# Altium integrated library TI Audio CODEC.IntLib: 199 symbols (part 13 of 17)
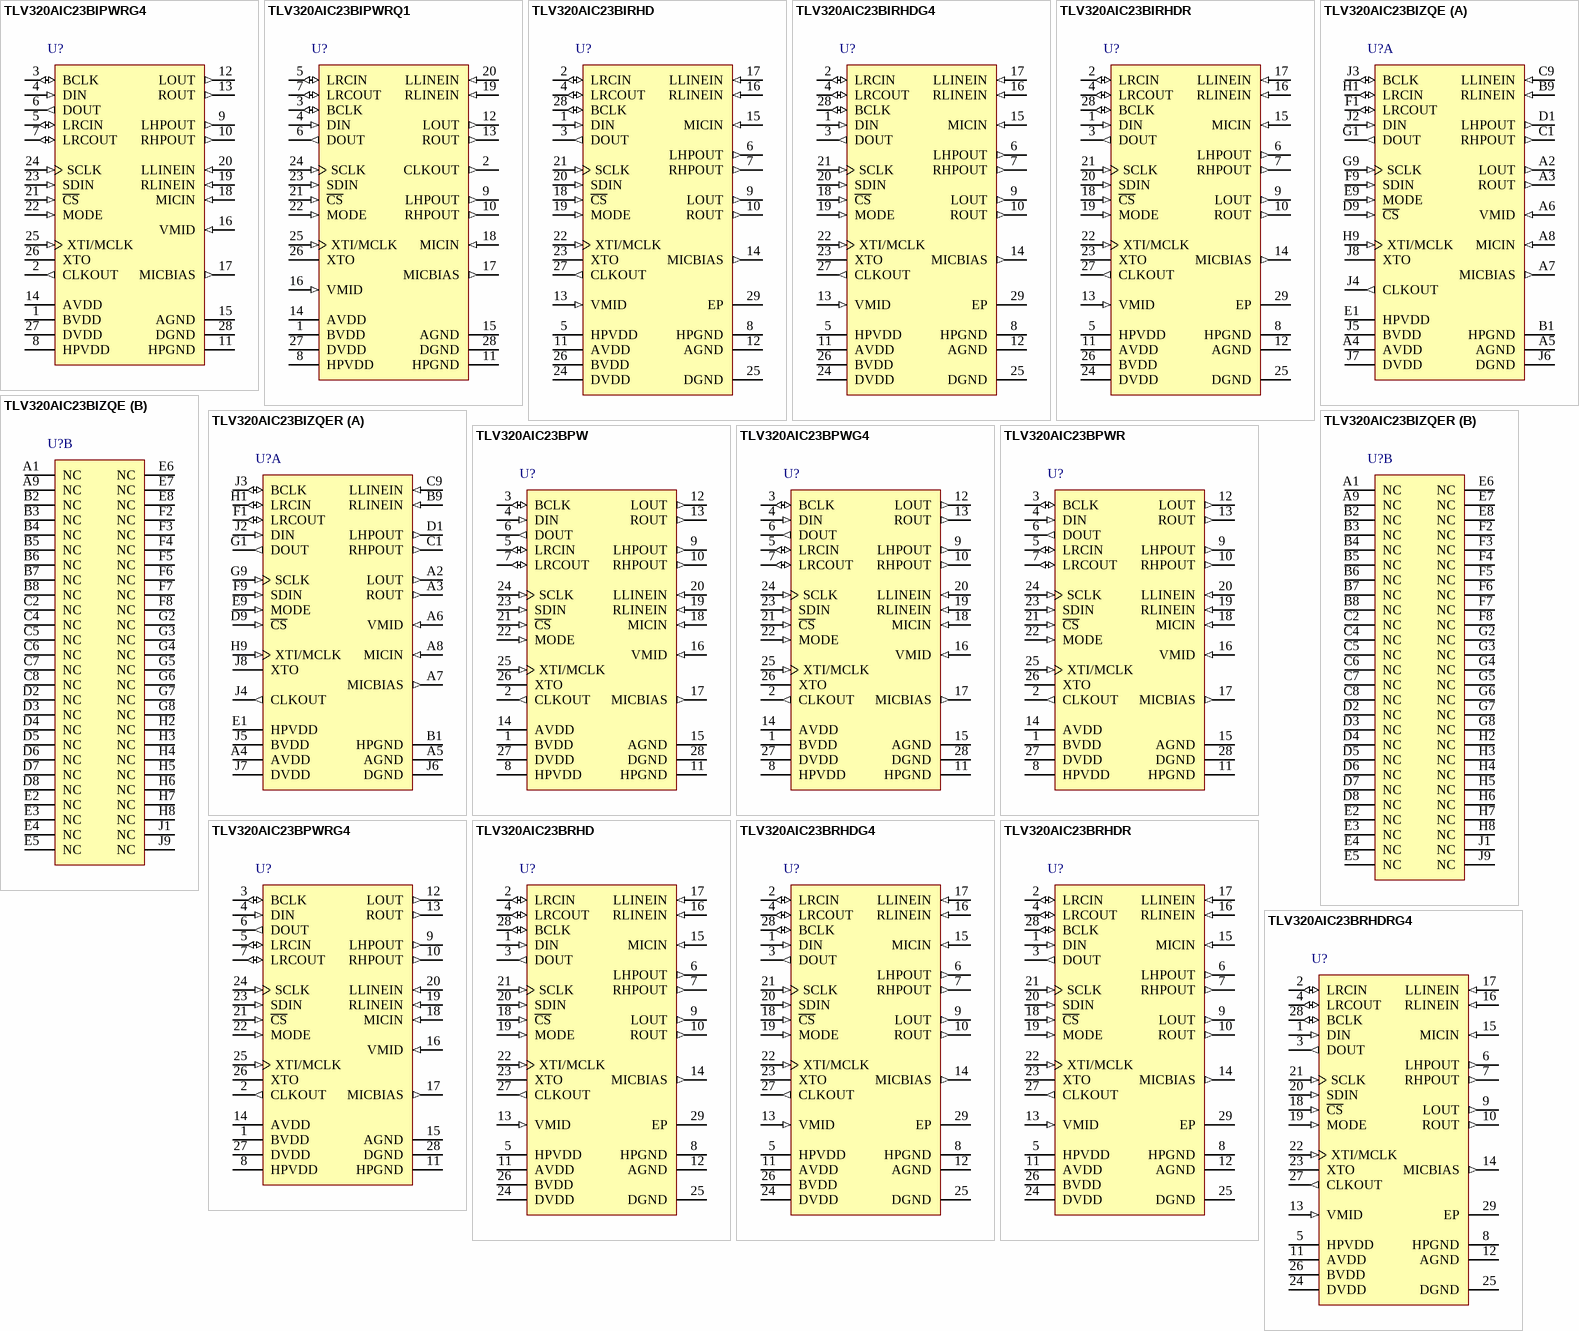
[diagram p25: symbols TLV320AIC23BIPWRG4 to TLV320AIC23BRHDRG4]

## TLV320AIC23BRHDRG4
designator U?
Low-Power Stereo CODEC with HP Amplifier, 1 ADC and 1 DAC, 100 dB DAC SNR, 0 to 70 degC, 28-pin VQFN (RHD), Green (RoHS & no Sb/Br); Manufacturer: Texas Instruments; PartNumber: TLV320AIC23BRHDRG4; # ADCs (typ): 1; Battery Powered: TRUE; Control Interface: SPI, I2C; DAC SNR: 100; Digital Audio Interfaces: L, R, I2S, DSP; Sampling Rate (Max) (kHz): 96; DatasheetVersion: SLWS106H; PackageVersion: revF, Sep-2011; PackageReference: RHD28-3150X3150TP; PackageDescription: 28-Pin Plastic Quad Flatpack No-Lead, 5 x 5 mm Body, 0.5 mm Pitch, Exposed Pad; Supplier 1: Digi-Key; Supplier Part Number 1: TLV320AIC23BRHDRG4-ND; Supplier 2: Newark; Supplier Part Number 2: 66K4437; Supplier 3: Mouser; Supplier Part Number 3: 595-TLV320AIC23BRHG4; # DACs: 1; Mounting Technology: Surface Mount; Code_JEDEC: MO-220; ComponentLink1Description: Datasheet; ComponentLink1URL: http://www.ti.com/general/docs/lit/getliterature.tsp?genericPartNumber=TLV320AIC23B&fileType=pdf
footprint RHD28-3150X3150TP (QFN, 28-Leads, Body 5x5mm, Pitch 0.5mm, Thermal Pad 3.15x3.15mm, TI Recommended)
pins: 1 DIN (in) "I2S format serial data input to the sigma-delta stereo DAC", 2 LRCIN (io) "I2S DAC-word clock signal. In audio master mode, the AIC23B generates this framing signal and sends it to the DSP. In audio slave mode, the signal is generated by the DSP.", 3 DOUT (out) "I2S format serial data output from the sigma-delta stereo ADC", 4 LRCOUT (io) "I2S ADC-word clock signal. In audio master mode, the AIC23B generates this framing signal and sends it to the DSP. In audio slave mode, the signal is generated by the DSP.", 5 HPVDD (power) "Analog headphone amplifier supply input. Voltage level is 3.3 V nominal.", 6 LHPOUT (out) "Left stereo mixer-channel amplified headphone output. Nominal 0-dB output level is 1 VRMS. Gain of -73 dB to 6 dB is provided in 1-dB steps.", 7 RHPOUT (out) "Right stereo mixer-channel amplified headphone output. Nominal 0-dB output level is 1 VRMS. Gain of -73 dB to 6 dB is provided in 1-dB steps.", 8 HPGND (power) "Analog headphone amplifier supply return", 9 LOUT (out) "Left stereo mixer-channel line output. Nominal output level is 1.0 VRMS.", 10 ROUT (out) "Right stereo mixer-channel line output. Nominal output level is 1.0 VRMS.", 11 AVDD (power) "Analog supply input. Voltage level is 3.3 V nominal.", 12 AGND (power) "Analog supply return", 13 VMID (in) "Midrail voltage decoupling input. 10-uF and 0.1-uF capacitors should be connected in parallel to this terminal for noise filtering. Voltage level is 1/2 AVDD nominal.", 14 MICBIAS (out) "Buffered low-noise-voltage output suitable for electret-microphone-capsule biasing. Voltage level is 3/4 AVDD nominal.", 15 MICIN (in) "Buffered amplifier input suitable for use with electret-microphone capsules. Without external resistors a default gain of 5 is provided. See Section 2.3.1.2 for details.", 16 RLINEIN (in) "Right stereo-line input channel. Nominal 0-dB input level is 1 VRMS. Gain of -34.5 dB to 12 dB is provided in 1.5-dB steps.", 17 LLINEIN (in) "Left stereo-line input channel. Nominal 0-dB input level is 1 VRMS. Gain of -34.5 dB to 12 dB is provided in 1.5-dB steps.", 18 ~{CS} (in) "Control port input latch/address select. For SPI control mode this input acts as the data latch control. For 2-wire control mode this input defines the seventh bit in the device address field. See Section 3.1 for details.", 19 MODE (in) "Serial-interface-mode input. See Section 3.1 for details.", 20 SDIN (in) "Control-port serial-data input. For SPI and 2-wire control modes this is the serial-data input and also is used to select the control protocol after reset. See Section 3.1 for details.", 21 SCLK (in) "Control-port serial-data clock. For SPI and 2-wire control modes this is the serial-clock input. See Section 3.1 for details.", 22 XTI/MCLK (in) "Crystal or external-clock input. Used for derivation of all internal clocks on the AIC23B.", 23 XTO "Crystal output. Connect to external crystal for applications where the AIC23B is the audio timing master. Not used in applications where external clock source is used.", 24 DVDD (power) "Digital supply input. Voltage range is 1.4 V to 3.6 V.", 25 DGND (power) "Digital supply return", 26 BVDD (power) "Buffer supply input. Voltage range is from 2.7 V to 3.6 V", 27 CLKOUT (out) "Clock output. This is a buffered version of the XTI input and is available in 1X or 1/2X frequencies of XTI. Bit 07 in the sample rate control register controls frequency selection.", 28 BCLK (io) "I2S serial-bit clock. In audio master mode, the AIC23B generates this signal and sends it to the DSP. In audio slave mode, the signal is generated by the DSP.", 29 EP "Exposed pad."

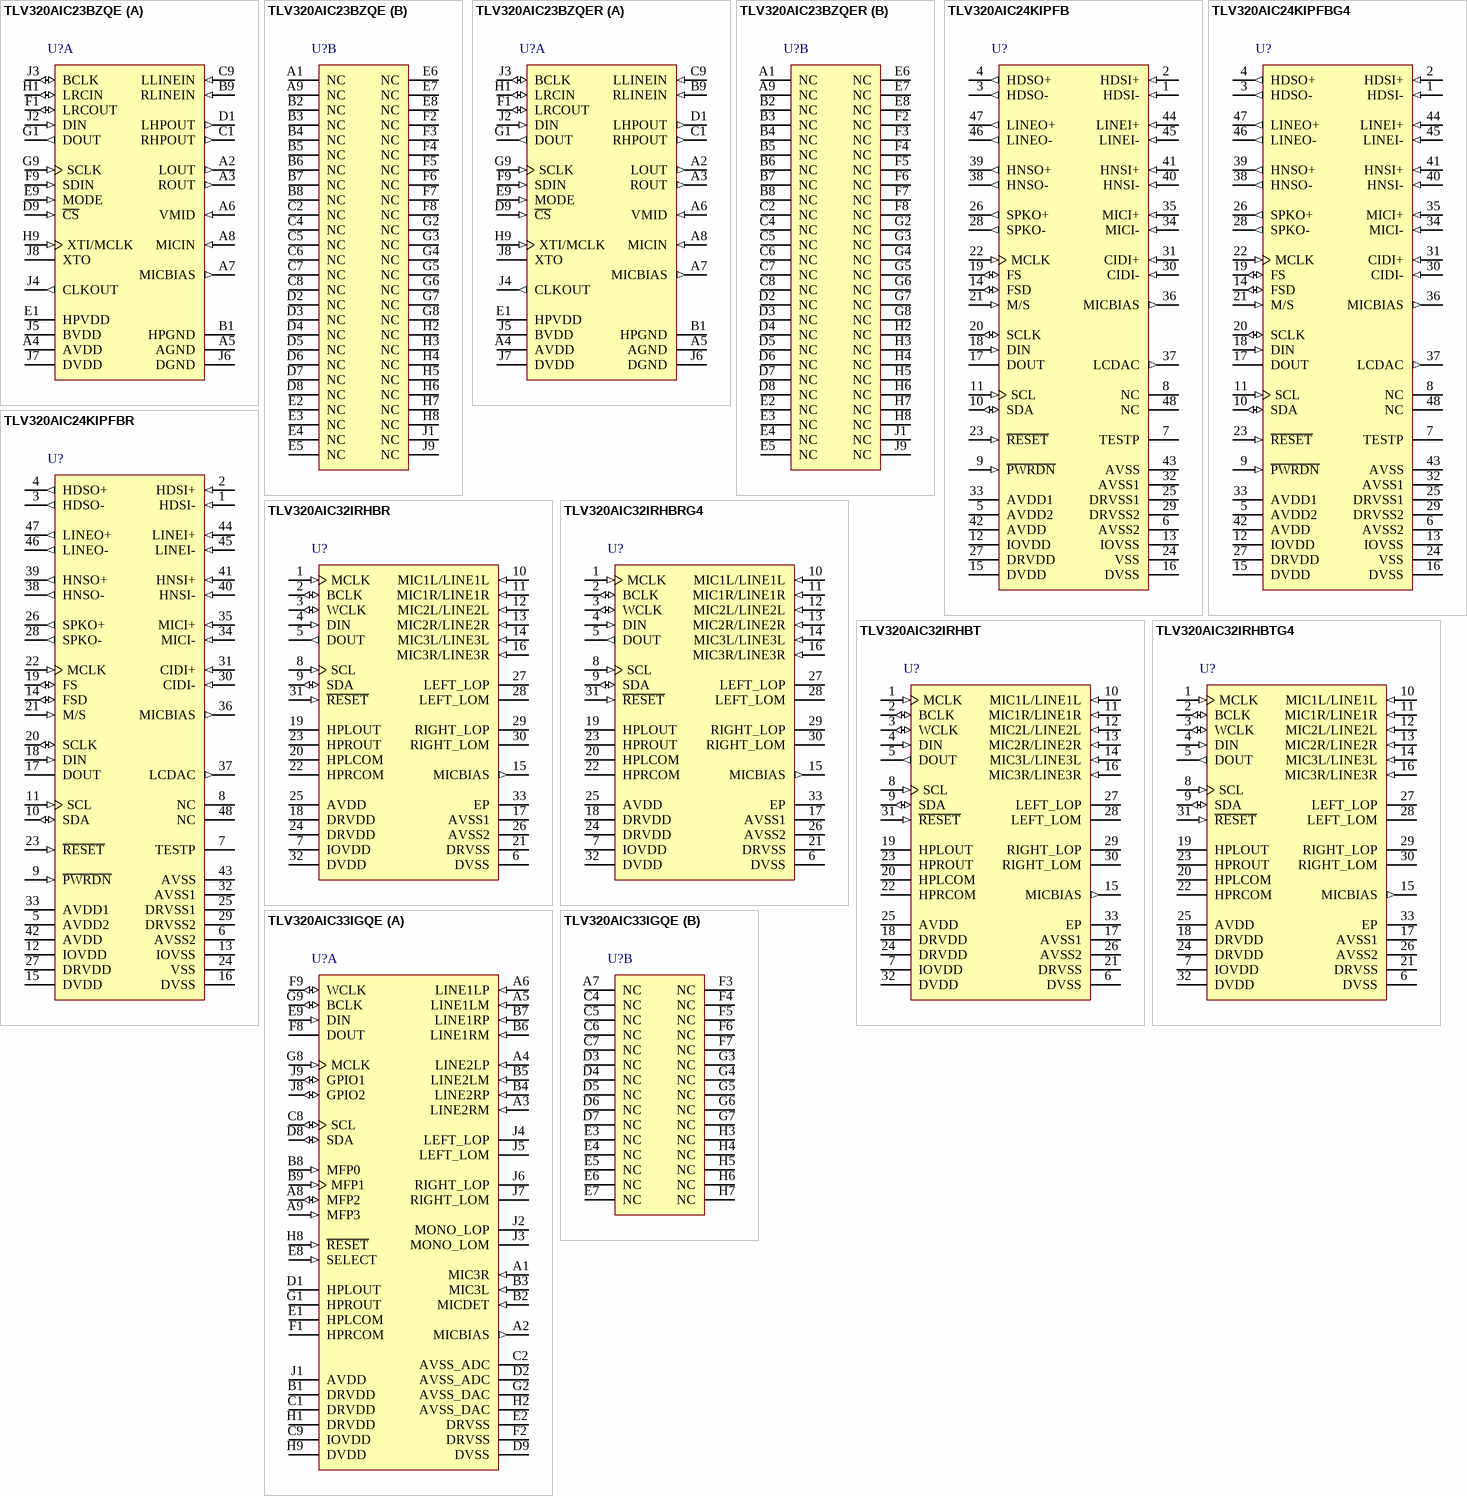
[diagram p9: symbols TLV320AIC23BZQE to TLV320AIC33IGQE]

## TLV320AIC23BZQE
designator U?
Low-Power Stereo CODEC with HP Amplifier, 1 ADC and 1 DAC, 100 dB DAC SNR, 0 to 70 degC, 80-pin BGAMICROSTAR JUNIOR (ZQE), Green (RoHS & no Sb/Br); Manufacturer: Texas Instruments; PartNumber: TLV320AIC23BZQE; # ADCs (typ): 1; Battery Powered: TRUE; Control Interface: SPI, I2C; DAC SNR: 100; Digital Audio Interfaces: L, R, I2S, DSP; Sampling Rate (Max) (kHz): 96; DatasheetVersion: SLWS106H; PackageVersion: revF, Jul-2011; PackageReference: ZQE80; PackageDescription: 80-Ball Plastic Ball Grid Array, 5 x 5 mm Body, 0.5 mm Pitch; Supplier 1: Digi-Key; Supplier Part Number 1: TLV320AIC23BZQE-ND; Supplier 2: Newark; Supplier Part Number 2: 61H5497; Supplier 3: Mouser; Supplier Part Number 3: 595-TLV320AIC23BZQE; # DACs: 1; Mounting Technology: Surface Mount; Code_JEDEC: MO-225; ComponentLink1Description: Datasheet; ComponentLink1URL: http://www.ti.com/general/docs/lit/getliterature.tsp?genericPartNumber=TLV320AIC23B&fileType=pdf
footprint ZQE80 (BGA, 80-Leads, Body 5x5mm, Pitch 0.5mm)
part A pins: A2 LOUT (out) "Left stereo mixer-channel line output. Nominal output level is 1.0 VRMS.", A3 ROUT (out) "Right stereo mixer-channel line output. Nominal output level is 1.0 VRMS.", A4 AVDD (power) "Analog supply input. Voltage level is 3.3 V nominal.", A5 AGND (power) "Analog supply return", A6 VMID (in) "Midrail voltage decoupling input. 10-uF and 0.1-uF capacitors should be connected in parallel to this teminal for noise filtering.Voltage level is 1/2 AVDD nomonal.", A7 MICBIAS (out) "Buffered low-noise-voltage output suitable for electret-microphone-capsule biasing. Voltage level is 3/4 AVDD nominal.", A8 MICIN (in) "Buffered amplifier input suitable for use with electret-microphone capsules. Without external resistors a default gain of 5 is provided.See Section 2.3.1.2 for details.", B1 HPGND (power) "Analog headphone amplifier supply return", B9 RLINEIN (in) "Right stereo-line input channel. Nominal 0-dB input level is 1 VRMS. Gain of -34.5 dB to 12 dB is provided in 1.5-db steps.", C1 RHPOUT (out) "Right stereo mixer-channel amplified headphone output. Nominal 0-dB output level is 1 VRMS.Gain of-73 db to 6 db is provided in 1-db steps.", C9 LLINEIN (in) "Left stereo-line input channel. Nominal 0-dB input level is 1 VRMS. Gain of -34.5 dB to 12 dB is provided in 1.5-db steps.", D1 LHPOUT (out) "Left stereo mixer-channel amplified headphone output. Nominal 0-dB output level is 1 VRMS.Gain of-73 db to 6 db is provided in 1-db steps.", D9 ~{CS} (in) "Control port input latch/address select.For SPI control mode this input acts as the data latch control.For 2-wire control mode this input defines the seventh bit in the device address field.See Section 3.1 for details.", E1 HPVDD (power) "Analog headphone amplifier supply input. Voltage level is 3.3 V nominal.", E9 MODE (in) "Serial-interface-mode input. See Section 3.1 for details.", F1 LRCOUT (io) "I2S ADC-word clock signal. In audio master mode, the AIC23B generates this framing signal and sens it to the DSP.In audio slave mode,the signal is generated by the DSP.", F9 SDIN (in) "Control-port serial-data input. For SPI and 2-wire control modes this is the serial-data input and also is used to select the control protocol after reset.See Section 3.1 for details.", G1 DOUT (out) "I2S format serial data output from the sigma-delta stereo ADC", G9 SCLK (in) "Control-port serial-data clock. For SPI and 2-wire control modes this is the serial-clock input.See Section 3.1 for details.", H1 LRCIN (io) "I2S DAC-word clock signal. In audio master mode, the AIC23B generates this framing signal and sends it to the DSP.In audio slave mode,the signal is generated by the DSP.", H9 XTI/MCLK (in) "Crystal or external-clock input. Used for derivation of all internal clocks on the AIC23B.", J2 DIN (in) "I2S format serial data input to the sigma-delta stereo DAC", J3 BCLK (io) "I2S serial-bit clock. In audio master mode, the AIC23B generates this signal and sends it to the DSP.In audio slave mode,the signal generated by the DSP.", J4 CLKOUT (out) "Clock output.This is a buffered version of the XTI input and is available in 1X or 1/2X frequencies of XTI.Bit 07 in the sample rate control register controls frequency selection.", J5 BVDD (power) "Buffer supply input.Voltage range is from 2.7V to 3.6V.", J6 DGND (power) "Digital supply return", J7 DVDD (power) "Digital supply input. Voltage range is 1.4 V to 3.6 V.", J8 XTO "Crystal output. Connect to external crystal for applications where the AIC23B is the audio timing master.Not used in applications wherre external clock source is used."
part B pins: A1 NC "Not Used--No internal connection", A9 NC "Not Used--No internal connection", B2 NC "Not Used--No internal connection", B3 NC "Not Used--No internal connection", B4 NC "Not Used--No internal connection", B5 NC "Not Used--No internal connection", B6 NC "Not Used--No internal connection", B7 NC "Not Used--No internal connection", B8 NC "Not Used--No internal connection", C2 NC "Not Used--No internal connection", C4 NC "Not Used--No internal connection", C5 NC "Not Used--No internal connection", C6 NC "Not Used--No internal connection", C7 NC "Not Used--No internal connection", C8 NC "Not Used--No internal connection", D2 NC "Not Used--No internal connection", D3 NC "Not Used--No internal connection", D4 NC "Not Used--No internal connection", D5 NC "Not Used--No internal connection", D6 NC "Not Used--No internal connection", D7 NC "Not Used--No internal connection", D8 NC "Not Used--No internal connection", E2 NC "Not Used--No internal connection", E3 NC "Not Used--No internal connection", E4 NC "Not Used--No internal connection", E5 NC "Not Used--No internal connection", E6 NC "Not Used--No internal connection", E7 NC "Not Used--No internal connection", E8 NC "Not Used--No internal connection", F2 NC "Not Used--No internal connection", F3 NC "Not Used--No internal connection", F4 NC "Not Used--No internal connection", F5 NC "Not Used--No internal connection", F6 NC "Not Used--No internal connection", F7 NC "Not Used--No internal connection", F8 NC "Not Used--No internal connection", G2 NC "Not Used--No internal connection", G3 NC "Not Used--No internal connection", G4 NC "Not Used--No internal connection", G5 NC "Not Used--No internal connection", G6 NC "Not Used--No internal connection", G7 NC "Not Used--No internal connection", G8 NC "Not Used--No internal connection", H2 NC "Not Used--No internal connection", H3 NC "Not Used--No internal connection", H4 NC "Not Used--No internal connection", H5 NC "Not Used--No internal connection", H6 NC "Not Used--No internal connection", H7 NC "Not Used--No internal connection", H8 NC "Not Used--No internal connection", J1 NC "Not Used--No internal connection", J9 NC "Not Used--No internal connection"

## TLV320AIC23BZQER
designator U?
Low-Power Stereo CODEC with HP Amplifier, 1 ADC and 1 DAC, 100 dB DAC SNR, 0 to 70 degC, 80-pin BGAMICROSTAR JUNIOR (ZQE), Green (RoHS & no Sb/Br); Manufacturer: Texas Instruments; PartNumber: TLV320AIC23BZQER; # ADCs (typ): 1; Battery Powered: TRUE; Control Interface: SPI, I2C; DAC SNR: 100; Digital Audio Interfaces: L, R, I2S, DSP; Sampling Rate (Max) (kHz): 96; DatasheetVersion: SLWS106H; PackageVersion: revF, Jul-2011; PackageReference: ZQE80; PackageDescription: 80-Ball Plastic Ball Grid Array, 5 x 5 mm Body, 0.5 mm Pitch; Supplier 1: Digi-Key; Supplier Part Number 1: TLV320AIC23BZQER-ND; Supplier 2: Newark; Supplier Part Number 2: 61H5498; Supplier 3: Mouser; Supplier Part Number 3: 595-TLV320AIC23BZQER; # DACs: 1; Mounting Technology: Surface Mount; Code_JEDEC: MO-225; ComponentLink1Description: Datasheet; ComponentLink1URL: http://www.ti.com/general/docs/lit/getliterature.tsp?genericPartNumber=TLV320AIC23B&fileType=pdf
footprint ZQE80 (BGA, 80-Leads, Body 5x5mm, Pitch 0.5mm)
part A pins: A2 LOUT (out) "Left stereo mixer-channel line output. Nominal output level is 1.0 VRMS.", A3 ROUT (out) "Right stereo mixer-channel line output. Nominal output level is 1.0 VRMS.", A4 AVDD (power) "Analog supply input. Voltage level is 3.3 V nominal.", A5 AGND (power) "Analog supply return", A6 VMID (in) "Midrail voltage decoupling input. 10-uF and 0.1-uF capacitors should be connected in parallel to this teminal for noise filtering.Voltage level is 1/2 AVDD nomonal.", A7 MICBIAS (out) "Buffered low-noise-voltage output suitable for electret-microphone-capsule biasing. Voltage level is 3/4 AVDD nominal.", A8 MICIN (in) "Buffered amplifier input suitable for use with electret-microphone capsules. Without external resistors a default gain of 5 is provided.See Section 2.3.1.2 for details.", B1 HPGND (power) "Analog headphone amplifier supply return", B9 RLINEIN (in) "Right stereo-line input channel. Nominal 0-dB input level is 1 VRMS. Gain of -34.5 dB to 12 dB is provided in 1.5-db steps.", C1 RHPOUT (out) "Right stereo mixer-channel amplified headphone output. Nominal 0-dB output level is 1 VRMS.Gain of-73 db to 6 db is provided in 1-db steps.", C9 LLINEIN (in) "Left stereo-line input channel. Nominal 0-dB input level is 1 VRMS. Gain of -34.5 dB to 12 dB is provided in 1.5-db steps.", D1 LHPOUT (out) "Left stereo mixer-channel amplified headphone output. Nominal 0-dB output level is 1 VRMS.Gain of-73 db to 6 db is provided in 1-db steps.", D9 ~{CS} (in) "Control port input latch/address select.For SPI control mode this input acts as the data latch control.For 2-wire control mode this input defines the seventh bit in the device address field.See Section 3.1 for details.", E1 HPVDD (power) "Analog headphone amplifier supply input. Voltage level is 3.3 V nominal.", E9 MODE (in) "Serial-interface-mode input. See Section 3.1 for details.", F1 LRCOUT (io) "I2S ADC-word clock signal. In audio master mode, the AIC23B generates this framing signal and sens it to the DSP.In audio slave mode,the signal is generated by the DSP.", F9 SDIN (in) "Control-port serial-data input. For SPI and 2-wire control modes this is the serial-data input and also is used to select the control protocol after reset.See Section 3.1 for details.", G1 DOUT (out) "I2S format serial data output from the sigma-delta stereo ADC", G9 SCLK (in) "Control-port serial-data clock. For SPI and 2-wire control modes this is the serial-clock input.See Section 3.1 for details.", H1 LRCIN (io) "I2S DAC-word clock signal. In audio master mode, the AIC23B generates this framing signal and sends it to the DSP.In audio slave mode,the signal is generated by the DSP.", H9 XTI/MCLK (in) "Crystal or external-clock input. Used for derivation of all internal clocks on the AIC23B.", J2 DIN (in) "I2S format serial data input to the sigma-delta stereo DAC", J3 BCLK (io) "I2S serial-bit clock. In audio master mode, the AIC23B generates this signal and sends it to the DSP.In audio slave mode,the signal generated by the DSP.", J4 CLKOUT (out) "Clock output.This is a buffered version of the XTI input and is available in 1X or 1/2X frequencies of XTI.Bit 07 in the sample rate control register controls frequency selection.", J5 BVDD (power) "Buffer supply input.Voltage range is from 2.7V to 3.6V.", J6 DGND (power) "Digital supply return", J7 DVDD (power) "Digital supply input. Voltage range is 1.4 V to 3.6 V.", J8 XTO "Crystal output. Connect to external crystal for applications where the AIC23B is the audio timing master.Not used in applications wherre external clock source is used."
part B pins: A1 NC "Not Used--No internal connection", A9 NC "Not Used--No internal connection", B2 NC "Not Used--No internal connection", B3 NC "Not Used--No internal connection", B4 NC "Not Used--No internal connection", B5 NC "Not Used--No internal connection", B6 NC "Not Used--No internal connection", B7 NC "Not Used--No internal connection", B8 NC "Not Used--No internal connection", C2 NC "Not Used--No internal connection", C4 NC "Not Used--No internal connection", C5 NC "Not Used--No internal connection", C6 NC "Not Used--No internal connection", C7 NC "Not Used--No internal connection", C8 NC "Not Used--No internal connection", D2 NC "Not Used--No internal connection", D3 NC "Not Used--No internal connection", D4 NC "Not Used--No internal connection", D5 NC "Not Used--No internal connection", D6 NC "Not Used--No internal connection", D7 NC "Not Used--No internal connection", D8 NC "Not Used--No internal connection", E2 NC "Not Used--No internal connection", E3 NC "Not Used--No internal connection", E4 NC "Not Used--No internal connection", E5 NC "Not Used--No internal connection", E6 NC "Not Used--No internal connection", E7 NC "Not Used--No internal connection", E8 NC "Not Used--No internal connection", F2 NC "Not Used--No internal connection", F3 NC "Not Used--No internal connection", F4 NC "Not Used--No internal connection", F5 NC "Not Used--No internal connection", F6 NC "Not Used--No internal connection", F7 NC "Not Used--No internal connection", F8 NC "Not Used--No internal connection", G2 NC "Not Used--No internal connection", G3 NC "Not Used--No internal connection", G4 NC "Not Used--No internal connection", G5 NC "Not Used--No internal connection", G6 NC "Not Used--No internal connection", G7 NC "Not Used--No internal connection", G8 NC "Not Used--No internal connection", H2 NC "Not Used--No internal connection", H3 NC "Not Used--No internal connection", H4 NC "Not Used--No internal connection", H5 NC "Not Used--No internal connection", H6 NC "Not Used--No internal connection", H7 NC "Not Used--No internal connection", H8 NC "Not Used--No internal connection", J1 NC "Not Used--No internal connection", J9 NC "Not Used--No internal connection"

## TLV320AIC24KIPFB
designator U?
Low-Power Stereo Voice Band CODEC with 1 ADC and 1 DAC, 92 dB DAC SNR, -40 to 85 degC, 48-pin TQFP (PFB), Green (RoHS & no Sb/Br); Manufacturer: Texas Instruments; PartNumber: TLV320AIC24KIPFB; # ADCs (typ): 1; Battery Powered: TRUE; Control Interface: I2C, S2C; DAC SNR: 92; Digital Audio Interfaces: DSP, SMART TDM; Sampling Rate (Max) (kHz): 26; DatasheetVersion: SLAS363D; PackageVersion: Jan-1998; PackageReference: PFB48; PackageDescription: 48-Pin Thin Plastic Quad Flat Pack 0.5 mm Pitch; Supplier 1: Digi-Key; Supplier Part Number 1: 296-17966-ND; Supplier 2: Newark; Supplier Part Number 2: 28K5677; Supplier 3: Mouser; Supplier Part Number 3: 595-TLV320AIC24KIPFB; # DACs: 1; Headphone Driver: TRUE; Mounting Technology: Surface Mount; Code_JEDEC: MS-026; ComponentLink1Description: Datasheet; ComponentLink1URL: http://www.ti.com/general/docs/lit/getliterature.tsp?genericPartNumber=TLV320AIC24K&fileType=pdf
footprint PFB48_N (Thin QFP, 48-Leads, Body 7x7mm, Pitch 0.5mm, IPC Medium Density)
footprint PFB48_L (Thin QFP, 48-Leads, Body 7x7mm, Pitch 0.5mm, IPC High Density)
footprint PFB48_M (Thin QFP, 48-Leads, Body 7x7mm, Pitch 0.5mm, IPC Low Density)
pins: 1 HDSI- (in) "Head-set input. The Head-set input can be treated similar to the Line-input pins", 2 HDSI+ (in) "Head-set input. The Head-set input can be treated similar to the Line-input pins", 3 HDSO- (out) "150-ohm output", 4 HDSO+ (out) "150-ohm output", 5 AVDD2 (power) "Analog power supply", 6 AVSS2 (power) "Analog ground", 7 TESTP (power) "Test pin. Should be connected to digital ground.", 8 NC "Not connected", 9 ~{PWRDN} (in) "Power down", 10 SDA (io) "I2C/S2C data", 11 SCL (in) "I2C/S2C clock", 12 IOVDD (power) "I/O power supply", 13 IOVSS (power) "I/O ground", 14 FSD (io) "Frame sync delayed", 15 DVDD (power) "Digital supply (1.8 V)", 16 DVSS (power) "Digital ground", 17 DOUT (hiz) "Data OUT", 18 DIN (in) "Data IN", 19 FS (io) "Frame sync", 20 SCLK (io) "Serial clock", 21 M/S (in) "Master slave select applied to CODEC1 only. CODEC2 is always a slave.", 22 MCLK (in) "Master clock", 23 ~{RESET} (in) "Reset", 24 VSS (power) "Device ground. Typically this should be connected to the Analog Ground.", 25 DRVSS1 (power) "Driver ground", 26 SPKO+ (out) "8-ohm output", 27 DRVDD (power) "Driver supply", 28 SPKO- (out) "8-ohm output", 29 DRVSS2 (power) "Driver ground", 30 CIDI- (in) "Caller-ID input. The Caller-ID input can be treated similar to the Line-input pins", 31 CIDI+ (in) "Caller-ID input. The Caller-ID input can be treated similar to the Line-input pins", 32 AVSS1 (power) "Analog ground", 33 AVDD1 (power) "Analog supply", 34 MICI- (in) "Microphone input", 35 MICI+ (in) "Microphone input", 36 MICBIAS (out) "Microphone bias", 37 LCDAC (out) "6-Bit DAC output may be used to drive LCDAC", 38 HNSO- (out) "150-ohm output", 39 HNSO+ (out) "150-ohm output", 40 HNSI- (in) "Hand-set input. The Hand-set input can be treated similar to the Line-input pins", 41 HNSI+ (in) "Hand-set input. The Hand-set input can be treated similar to the Line-input pins", 42 AVDD (power) "Analog supply", 43 AVSS (power) "Analog ground", 44 LINEI+ (in) "Line input", 45 LINEI- (in) "Line input", 46 LINEO- (out) "600-ohm output", 47 LINEO+ (out) "600-ohm output", 48 NC "Not connected"

## TLV320AIC24KIPFBG4
designator U?
Low-Power Stereo Voice Band CODEC with 1 ADC and 1 DAC, 92 dB DAC SNR, -40 to 85 degC, 48-pin TQFP (PFB), Green (RoHS & no Sb/Br); Manufacturer: Texas Instruments; PartNumber: TLV320AIC24KIPFBG4; # ADCs (typ): 1; Battery Powered: TRUE; Control Interface: I2C, S2C; DAC SNR: 92; Digital Audio Interfaces: DSP, SMART TDM; Sampling Rate (Max) (kHz): 26; DatasheetVersion: SLAS363D; PackageVersion: Jan-1998; PackageReference: PFB48; PackageDescription: 48-Pin Thin Plastic Quad Flat Pack 0.5 mm Pitch; Supplier 1: Digi-Key; Supplier Part Number 1: TLV320AIC24KIPFBG4-ND; Supplier 2: Newark; Supplier Part Number 2: 58K6800; Supplier 3: Mouser; Supplier Part Number 3: 595-TLV320AIC24KIPG4; # DACs: 1; Headphone Driver: TRUE; Mounting Technology: Surface Mount; Code_JEDEC: MS-026; ComponentLink1Description: Datasheet; ComponentLink1URL: http://www.ti.com/general/docs/lit/getliterature.tsp?genericPartNumber=TLV320AIC24K&fileType=pdf
footprint PFB48_N (Thin QFP, 48-Leads, Body 7x7mm, Pitch 0.5mm, IPC Medium Density)
footprint PFB48_L (Thin QFP, 48-Leads, Body 7x7mm, Pitch 0.5mm, IPC High Density)
footprint PFB48_M (Thin QFP, 48-Leads, Body 7x7mm, Pitch 0.5mm, IPC Low Density)
pins: 1 HDSI- (in) "Head-set input. The Head-set input can be treated similar to the Line-input pins", 2 HDSI+ (in) "Head-set input. The Head-set input can be treated similar to the Line-input pins", 3 HDSO- (out) "150-ohm output", 4 HDSO+ (out) "150-ohm output", 5 AVDD2 (power) "Analog power supply", 6 AVSS2 (power) "Analog ground", 7 TESTP (power) "Test pin. Should be connected to digital ground.", 8 NC "Not connected", 9 ~{PWRDN} (in) "Power down", 10 SDA (io) "I2C/S2C data", 11 SCL (in) "I2C/S2C clock", 12 IOVDD (power) "I/O power supply", 13 IOVSS (power) "I/O ground", 14 FSD (io) "Frame sync delayed", 15 DVDD (power) "Digital supply (1.8 V)", 16 DVSS (power) "Digital ground", 17 DOUT (hiz) "Data OUT", 18 DIN (in) "Data IN", 19 FS (io) "Frame sync", 20 SCLK (io) "Serial clock", 21 M/S (in) "Master slave select applied to CODEC1 only. CODEC2 is always a slave.", 22 MCLK (in) "Master clock", 23 ~{RESET} (in) "Reset", 24 VSS (power) "Device ground. Typically this should be connected to the Analog Ground.", 25 DRVSS1 (power) "Driver ground", 26 SPKO+ (out) "8-ohm output", 27 DRVDD (power) "Driver supply", 28 SPKO- (out) "8-ohm output", 29 DRVSS2 (power) "Driver ground", 30 CIDI- (in) "Caller-ID input. The Caller-ID input can be treated similar to the Line-input pins", 31 CIDI+ (in) "Caller-ID input. The Caller-ID input can be treated similar to the Line-input pins", 32 AVSS1 (power) "Analog ground", 33 AVDD1 (power) "Analog supply", 34 MICI- (in) "Microphone input", 35 MICI+ (in) "Microphone input", 36 MICBIAS (out) "Microphone bias", 37 LCDAC (out) "6-Bit DAC output may be used to drive LCDAC", 38 HNSO- (out) "150-ohm output", 39 HNSO+ (out) "150-ohm output", 40 HNSI- (in) "Hand-set input. The Hand-set input can be treated similar to the Line-input pins", 41 HNSI+ (in) "Hand-set input. The Hand-set input can be treated similar to the Line-input pins", 42 AVDD (power) "Analog supply", 43 AVSS (power) "Analog ground", 44 LINEI+ (in) "Line input", 45 LINEI- (in) "Line input", 46 LINEO- (out) "600-ohm output", 47 LINEO+ (out) "600-ohm output", 48 NC "Not connected"

## TLV320AIC24KIPFBR
designator U?
Low-Power Stereo Voice Band CODEC with 1 ADC and 1 DAC, 92 dB DAC SNR, -40 to 85 degC, 48-pin TQFP (PFB), Green (RoHS & no Sb/Br); Manufacturer: Texas Instruments; PartNumber: TLV320AIC24KIPFBR; # ADCs (typ): 1; Battery Powered: TRUE; Control Interface: I2C, S2C; DAC SNR: 92; Digital Audio Interfaces: DSP, SMART TDM; Sampling Rate (Max) (kHz): 26; DatasheetVersion: SLAS363D; PackageVersion: Jan-1998; PackageReference: PFB48; PackageDescription: 48-Pin Thin Plastic Quad Flat Pack 0.5 mm Pitch; Supplier 1: Digi-Key; Supplier Part Number 1: TLV320AIC24KIPFBR-ND; Supplier 2: Newark; Supplier Part Number 2: 28K5678; Supplier 3: Mouser; Supplier Part Number 3: 595-TLV320AIC24KFBR; # DACs: 1; Headphone Driver: TRUE; Mounting Technology: Surface Mount; Code_JEDEC: MS-026; ComponentLink1Description: Datasheet; ComponentLink1URL: http://www.ti.com/general/docs/lit/getliterature.tsp?genericPartNumber=TLV320AIC24K&fileType=pdf
footprint PFB48_N (Thin QFP, 48-Leads, Body 7x7mm, Pitch 0.5mm, IPC Medium Density)
footprint PFB48_L (Thin QFP, 48-Leads, Body 7x7mm, Pitch 0.5mm, IPC High Density)
footprint PFB48_M (Thin QFP, 48-Leads, Body 7x7mm, Pitch 0.5mm, IPC Low Density)
pins: 1 HDSI- (in) "Head-set input. The Head-set input can be treated similar to the Line-input pins", 2 HDSI+ (in) "Head-set input. The Head-set input can be treated similar to the Line-input pins", 3 HDSO- (out) "150-ohm output", 4 HDSO+ (out) "150-ohm output", 5 AVDD2 (power) "Analog power supply", 6 AVSS2 (power) "Analog ground", 7 TESTP (power) "Test pin. Should be connected to digital ground.", 8 NC "Not connected", 9 ~{PWRDN} (in) "Power down", 10 SDA (io) "I2C/S2C data", 11 SCL (in) "I2C/S2C clock", 12 IOVDD (power) "I/O power supply", 13 IOVSS (power) "I/O ground", 14 FSD (io) "Frame sync delayed", 15 DVDD (power) "Digital supply (1.8 V)", 16 DVSS (power) "Digital ground", 17 DOUT (hiz) "Data OUT", 18 DIN (in) "Data IN", 19 FS (io) "Frame sync", 20 SCLK (io) "Serial clock", 21 M/S (in) "Master slave select applied to CODEC1 only. CODEC2 is always a slave.", 22 MCLK (in) "Master clock", 23 ~{RESET} (in) "Reset", 24 VSS (power) "Device ground. Typically this should be connected to the Analog Ground.", 25 DRVSS1 (power) "Driver ground", 26 SPKO+ (out) "8-ohm output", 27 DRVDD (power) "Driver supply", 28 SPKO- (out) "8-ohm output", 29 DRVSS2 (power) "Driver ground", 30 CIDI- (in) "Caller-ID input. The Caller-ID input can be treated similar to the Line-input pins", 31 CIDI+ (in) "Caller-ID input. The Caller-ID input can be treated similar to the Line-input pins", 32 AVSS1 (power) "Analog ground", 33 AVDD1 (power) "Analog supply", 34 MICI- (in) "Microphone input", 35 MICI+ (in) "Microphone input", 36 MICBIAS (out) "Microphone bias", 37 LCDAC (out) "6-Bit DAC output may be used to drive LCDAC", 38 HNSO- (out) "150-ohm output", 39 HNSO+ (out) "150-ohm output", 40 HNSI- (in) "Hand-set input. The Hand-set input can be treated similar to the Line-input pins", 41 HNSI+ (in) "Hand-set input. The Hand-set input can be treated similar to the Line-input pins", 42 AVDD (power) "Analog supply", 43 AVSS (power) "Analog ground", 44 LINEI+ (in) "Line input", 45 LINEI- (in) "Line input", 46 LINEO- (out) "600-ohm output", 47 LINEO+ (out) "600-ohm output", 48 NC "Not connected"

## TLV320AIC32IRHBR
designator U?
Low-Power Stereo CODEC with 6 Inputs, 6 Outputs, HP / Speaker Amplifier and 3D Effects, 2 ADCs and 2 DACs, 100 dB DAC SNR, -40 to 85 degC, 32-pin QFN (RHB), Green (RoHS & no Sb/Br); Manufacturer: Texas Instruments; PartNumber: TLV320AIC32IRHBR; # ADCs (typ): 2; Additional Features: 3D, EQ, Matrix Mixing, PLL; Battery Powered: TRUE; Control Interface: I2C; DAC SNR: 100; Digital Audio Interfaces: L, R, I2S, DSP; Sampling Rate (Max) (kHz): 96; Speaker Amp Output Power(Max)(W): 0.5; Speaker Amp Type: Class-AB; DatasheetVersion: SLAS479C; PackageVersion: revD, Jun-2011; PackageReference: RHB32-3450X3450TP; PackageDescription: 32-Pin Plastic Quad Flat No-Lead, 5 x 5 mm Body, 0.5 mm Pitch, 3.45 x 3.45 mm Exposed Pad; Supplier 1: Digi-Key; Supplier Part Number 1: TLV320AIC32IRHBR-ND; Supplier 2: Newark; Supplier Part Number 2: 61K1806; Supplier 3: Mouser; Supplier Part Number 3: 595-TLV320AIC32IRHBR; # DACs: 2; Speaker Amp Ouputs: 2; Mounting Technology: Surface Mount; Code_JEDEC: MO-220; ComponentLink1Description: Datasheet; ComponentLink1URL: http://www.ti.com/general/docs/lit/getliterature.tsp?genericPartNumber=TLV320AIC32&fileType=pdf
footprint RHB32-3450X3450TP (QFN, 32-Leads, Body 5x5mm, Pitch 0.5mm, Thermal Pad 3.45x3.45mm, TI Recommended)
pins: 1 MCLK (in) "Master clock input", 2 BCLK (io) "Audio serial data bus bit clock input/output", 3 WCLK (io) "Audio serial data bus word clock input/output", 4 DIN (in) "Audio serial data bus data input", 5 DOUT (out) "Audio serial data bus data output", 6 DVSS (power) "Digital core / I/O Ground Supply, 0 V", 7 IOVDD (power) "Digital I/O voltage supply, 1.1 V - 3.6 V", 8 SCL (in) "I2C serial clock input", 9 SDA (io) "I2C serial data input/output", 10 MIC1L/LINE1L (in) "Left input 1", 11 MIC1R/LINE1R (in) "Right input 1", 12 MIC2L/LINE2L (in) "Left input 2", 13 MIC2R/LINE2R (in) "Right input 2", 14 MIC3L/LINE3L (in) "Left input 3", 15 MICBIAS (out) "Microphone bias voltage output", 16 MIC3R/LINE3R (in) "Right input 3", 17 AVSS1 (power) "Analog ADC ground supply, 0 V", 18 DRVDD (power) "Analog ADC and output driver voltage supply, 2.7 V - 3.6 V", 19 HPLOUT (hiz) "High power output driver (left +)", 20 HPLCOM (hiz) "High power output driver (left - or multi-functional)", 21 DRVSS (power) "Analog output driver ground supply, 0 V", 22 HPRCOM (hiz) "High power output driver (right - or multi-functional)", 23 HPROUT (hiz) "High power output driver (right +)", 24 DRVDD (power) "Analog output driver voltage supply, 2.7 V - 3.6 V", 25 AVDD (power) "Analog DAC voltage supply, 2.7 V - 3.6 V", 26 AVSS2 (power) "Analog DAC ground supply, 0 V", 27 LEFT_LOP (hiz) "Left line output (+)", 28 LEFT_LOM (hiz) "Left line output (-)", 29 RIGHT_LOP (hiz) "Right lineo output (+)", 30 RIGHT_LOM (hiz) "Right line output (-)", 31 ~{RESET} (in) "Reset", 32 DVDD (power) "Digital core voltage supply, 1.65 V - 1.95 V", 33 EP "Exposed Thermal Pad"

## TLV320AIC32IRHBRG4
designator U?
Low-Power Stereo CODEC with 6 Inputs, 6 Outputs, HP / Speaker Amplifier and 3D Effects, 2 ADCs and 2 DACs, 100 dB DAC SNR, -40 to 85 degC, 32-pin QFN (RHB), Green (RoHS & no Sb/Br); Manufacturer: Texas Instruments; PartNumber: TLV320AIC32IRHBRG4; # ADCs (typ): 2; Additional Features: 3D, EQ, Matrix Mixing, PLL; Battery Powered: TRUE; Control Interface: I2C; DAC SNR: 100; Digital Audio Interfaces: L, R, I2S, DSP; Sampling Rate (Max) (kHz): 96; Speaker Amp Output Power(Max)(W): 0.5; Speaker Amp Type: Class-AB; DatasheetVersion: SLAS479C; PackageVersion: revD, Jun-2011; PackageReference: RHB32-3450X3450TP; PackageDescription: 32-Pin Plastic Quad Flat No-Lead, 5 x 5 mm Body, 0.5 mm Pitch, 3.45 x 3.45 mm Exposed Pad; Supplier 1: Digi-Key; Supplier Part Number 1: TLV320AIC32IRHBRG4-ND; Supplier 2: Newark; Supplier Part Number 2: 61K1807; Supplier 3: Mouser; Supplier Part Number 3: 595-TLV320AIC32IRRG4; # DACs: 2; Speaker Amp Ouputs: 2; Mounting Technology: Surface Mount; Code_JEDEC: MO-220; ComponentLink1Description: Datasheet; ComponentLink1URL: http://www.ti.com/general/docs/lit/getliterature.tsp?genericPartNumber=TLV320AIC32&fileType=pdf
footprint RHB32-3450X3450TP (QFN, 32-Leads, Body 5x5mm, Pitch 0.5mm, Thermal Pad 3.45x3.45mm, TI Recommended)
pins: 1 MCLK (in) "Master clock input", 2 BCLK (io) "Audio serial data bus bit clock input/output", 3 WCLK (io) "Audio serial data bus word clock input/output", 4 DIN (in) "Audio serial data bus data input", 5 DOUT (out) "Audio serial data bus data output", 6 DVSS (power) "Digital core / I/O Ground Supply, 0 V", 7 IOVDD (power) "Digital I/O voltage supply, 1.1 V - 3.6 V", 8 SCL (in) "I2C serial clock input", 9 SDA (io) "I2C serial data input/output", 10 MIC1L/LINE1L (in) "Left input 1", 11 MIC1R/LINE1R (in) "Right input 1", 12 MIC2L/LINE2L (in) "Left input 2", 13 MIC2R/LINE2R (in) "Right input 2", 14 MIC3L/LINE3L (in) "Left input 3", 15 MICBIAS (out) "Microphone bias voltage output", 16 MIC3R/LINE3R (in) "Right input 3", 17 AVSS1 (power) "Analog ADC ground supply, 0 V", 18 DRVDD (power) "Analog ADC and output driver voltage supply, 2.7 V - 3.6 V", 19 HPLOUT (hiz) "High power output driver (left +)", 20 HPLCOM (hiz) "High power output driver (left - or multi-functional)", 21 DRVSS (power) "Analog output driver ground supply, 0 V", 22 HPRCOM (hiz) "High power output driver (right - or multi-functional)", 23 HPROUT (hiz) "High power output driver (right +)", 24 DRVDD (power) "Analog output driver voltage supply, 2.7 V - 3.6 V", 25 AVDD (power) "Analog DAC voltage supply, 2.7 V - 3.6 V", 26 AVSS2 (power) "Analog DAC ground supply, 0 V", 27 LEFT_LOP (hiz) "Left line output (+)", 28 LEFT_LOM (hiz) "Left line output (-)", 29 RIGHT_LOP (hiz) "Right lineo output (+)", 30 RIGHT_LOM (hiz) "Right line output (-)", 31 ~{RESET} (in) "Reset", 32 DVDD (power) "Digital core voltage supply, 1.65 V - 1.95 V", 33 EP "Exposed Thermal Pad"

## TLV320AIC32IRHBT
designator U?
Low-Power Stereo CODEC with 6 Inputs, 6 Outputs, HP / Speaker Amplifier and 3D Effects, 2 ADCs and 2 DACs, 100 dB DAC SNR, -40 to 85 degC, 32-pin QFN (RHB), Green (RoHS & no Sb/Br); Manufacturer: Texas Instruments; PartNumber: TLV320AIC32IRHBT; # ADCs (typ): 2; Additional Features: 3D, EQ, Matrix Mixing, PLL; Battery Powered: TRUE; Control Interface: I2C; DAC SNR: 100; Digital Audio Interfaces: L, R, I2S, DSP; Sampling Rate (Max) (kHz): 96; Speaker Amp Output Power(Max)(W): 0.5; Speaker Amp Type: Class-AB; DatasheetVersion: SLAS479C; PackageVersion: revD, Jun-2011; PackageReference: RHB32-3450X3450TP; PackageDescription: 32-Pin Plastic Quad Flat No-Lead, 5 x 5 mm Body, 0.5 mm Pitch, 3.45 x 3.45 mm Exposed Pad; Supplier 1: Digi-Key; Supplier Part Number 1: 296-21123-2-ND; Supplier 2: Digi-Key; Supplier Part Number 2: 296-21123-1-ND; Supplier 3: Digi-Key; Supplier Part Number 3: 296-21123-6-ND; Supplier 4: Farnell; Supplier Part Number 4: 1411816; Supplier 5: Newark; Supplier Part Number 5: 66K4439; Supplier 6: Mouser; Supplier Part Number 6: 595-TLV320AIC32IRHBT; # DACs: 2; Speaker Amp Ouputs: 2; Mounting Technology: Surface Mount; Code_JEDEC: MO-220; ComponentLink1Description: Datasheet; ComponentLink1URL: http://www.ti.com/general/docs/lit/getliterature.tsp?genericPartNumber=TLV320AIC32&fileType=pdf
footprint RHB32-3450X3450TP (QFN, 32-Leads, Body 5x5mm, Pitch 0.5mm, Thermal Pad 3.45x3.45mm, TI Recommended)
pins: 1 MCLK (in) "Master clock input", 2 BCLK (io) "Audio serial data bus bit clock input/output", 3 WCLK (io) "Audio serial data bus word clock input/output", 4 DIN (in) "Audio serial data bus data input", 5 DOUT (out) "Audio serial data bus data output", 6 DVSS (power) "Digital core / I/O Ground Supply, 0 V", 7 IOVDD (power) "Digital I/O voltage supply, 1.1 V - 3.6 V", 8 SCL (in) "I2C serial clock input", 9 SDA (io) "I2C serial data input/output", 10 MIC1L/LINE1L (in) "Left input 1", 11 MIC1R/LINE1R (in) "Right input 1", 12 MIC2L/LINE2L (in) "Left input 2", 13 MIC2R/LINE2R (in) "Right input 2", 14 MIC3L/LINE3L (in) "Left input 3", 15 MICBIAS (out) "Microphone bias voltage output", 16 MIC3R/LINE3R (in) "Right input 3", 17 AVSS1 (power) "Analog ADC ground supply, 0 V", 18 DRVDD (power) "Analog ADC and output driver voltage supply, 2.7 V - 3.6 V", 19 HPLOUT (hiz) "High power output driver (left +)", 20 HPLCOM (hiz) "High power output driver (left - or multi-functional)", 21 DRVSS (power) "Analog output driver ground supply, 0 V", 22 HPRCOM (hiz) "High power output driver (right - or multi-functional)", 23 HPROUT (hiz) "High power output driver (right +)", 24 DRVDD (power) "Analog output driver voltage supply, 2.7 V - 3.6 V", 25 AVDD (power) "Analog DAC voltage supply, 2.7 V - 3.6 V", 26 AVSS2 (power) "Analog DAC ground supply, 0 V", 27 LEFT_LOP (hiz) "Left line output (+)", 28 LEFT_LOM (hiz) "Left line output (-)", 29 RIGHT_LOP (hiz) "Right lineo output (+)", 30 RIGHT_LOM (hiz) "Right line output (-)", 31 ~{RESET} (in) "Reset", 32 DVDD (power) "Digital core voltage supply, 1.65 V - 1.95 V", 33 EP "Exposed Thermal Pad"

## TLV320AIC32IRHBTG4
designator U?
Low-Power Stereo CODEC with 6 Inputs, 6 Outputs, HP / Speaker Amplifier and 3D Effects, 2 ADCs and 2 DACs, 100 dB DAC SNR, -40 to 85 degC, 32-pin QFN (RHB), Green (RoHS & no Sb/Br); Manufacturer: Texas Instruments; PartNumber: TLV320AIC32IRHBTG4; # ADCs (typ): 2; Additional Features: 3D, EQ, Matrix Mixing, PLL; Battery Powered: TRUE; Control Interface: I2C; DAC SNR: 100; Digital Audio Interfaces: L, R, I2S, DSP; Sampling Rate (Max) (kHz): 96; Speaker Amp Output Power(Max)(W): 0.5; Speaker Amp Type: Class-AB; DatasheetVersion: SLAS479C; PackageVersion: revD, Jun-2011; PackageReference: RHB32-3450X3450TP; PackageDescription: 32-Pin Plastic Quad Flat No-Lead, 5 x 5 mm Body, 0.5 mm Pitch, 3.45 x 3.45 mm Exposed Pad; Supplier 1: Digi-Key; Supplier Part Number 1: TLV320AIC32IRHBTG4-ND; Supplier 2: Farnell; Supplier Part Number 2: 1344376; Supplier 3: Newark; Supplier Part Number 3: 62M0545; Supplier 4: Newark; Supplier Part Number 4: 67K8542; Supplier 5: Mouser; Supplier Part Number 5: 595-TLV320AIC32IRHG4; # DACs: 2; Speaker Amp Ouputs: 2; Mounting Technology: Surface Mount; Code_JEDEC: MO-220; ComponentLink1Description: Datasheet; ComponentLink1URL: http://www.ti.com/general/docs/lit/getliterature.tsp?genericPartNumber=TLV320AIC32&fileType=pdf
footprint RHB32-3450X3450TP (QFN, 32-Leads, Body 5x5mm, Pitch 0.5mm, Thermal Pad 3.45x3.45mm, TI Recommended)
pins: 1 MCLK (in) "Master clock input", 2 BCLK (io) "Audio serial data bus bit clock input/output", 3 WCLK (io) "Audio serial data bus word clock input/output", 4 DIN (in) "Audio serial data bus data input", 5 DOUT (out) "Audio serial data bus data output", 6 DVSS (power) "Digital core / I/O Ground Supply, 0 V", 7 IOVDD (power) "Digital I/O voltage supply, 1.1 V - 3.6 V", 8 SCL (in) "I2C serial clock input", 9 SDA (io) "I2C serial data input/output", 10 MIC1L/LINE1L (in) "Left input 1", 11 MIC1R/LINE1R (in) "Right input 1", 12 MIC2L/LINE2L (in) "Left input 2", 13 MIC2R/LINE2R (in) "Right input 2", 14 MIC3L/LINE3L (in) "Left input 3", 15 MICBIAS (out) "Microphone bias voltage output", 16 MIC3R/LINE3R (in) "Right input 3", 17 AVSS1 (power) "Analog ADC ground supply, 0 V", 18 DRVDD (power) "Analog ADC and output driver voltage supply, 2.7 V - 3.6 V", 19 HPLOUT (hiz) "High power output driver (left +)", 20 HPLCOM (hiz) "High power output driver (left - or multi-functional)", 21 DRVSS (power) "Analog output driver ground supply, 0 V", 22 HPRCOM (hiz) "High power output driver (right - or multi-functional)", 23 HPROUT (hiz) "High power output driver (right +)", 24 DRVDD (power) "Analog output driver voltage supply, 2.7 V - 3.6 V", 25 AVDD (power) "Analog DAC voltage supply, 2.7 V - 3.6 V", 26 AVSS2 (power) "Analog DAC ground supply, 0 V", 27 LEFT_LOP (hiz) "Left line output (+)", 28 LEFT_LOM (hiz) "Left line output (-)", 29 RIGHT_LOP (hiz) "Right lineo output (+)", 30 RIGHT_LOM (hiz) "Right line output (-)", 31 ~{RESET} (in) "Reset", 32 DVDD (power) "Digital core voltage supply, 1.65 V - 1.95 V", 33 EP "Exposed Thermal Pad"

## TLV320AIC33IGQE
designator U?
Low-Power Stereo CODEC with 10 Inputs, 7 Outputs, HP / Speaker Amplifier and Enhanced Digital Effects, 2 ADCs and 2 DACs, 100 dB DAC SNR, -40 to 85 degC, 80-pin BGA MICROSTAR JUNIOR (GQE); Manufacturer: Texas Instruments; PartNumber: TLV320AIC33IGQE; # ADCs (typ): 2; Additional Features: 3D, EQ, Matrix Mixing, PLL, Alt Audio Int., HS detect; Battery Powered: TRUE; Control Interface: SPI, I2C; DAC SNR: 100; Digital Audio Interfaces: L, R, I2S, DSP, TDM; Sampling Rate (Max) (kHz): 96; Speaker Amp Output Power(Max)(W): 0.5; Speaker Amp Type: Class-AB; DatasheetVersion: SLAS480B; PackageVersion: Oct-2005; PackageReference: GQE80; PackageDescription: 80-Ball Plastic Ball Grid Array, 5 x 5 mm Body, 0.5 mm Pitch; Supplier 1: Digi-Key; Supplier Part Number 1: 296-19440-ND; Supplier 2: Newark; Supplier Part Number 2: 75K1592; Supplier 3: Mouser; Supplier Part Number 3: 595-TLV320AIC33IGQE; # DACs: 2; Speaker Amp Ouputs: 2; Mounting Technology: Surface Mount; Code_JEDEC: MO-225; ComponentLink1Description: Datasheet; ComponentLink1URL: http://www.ti.com/general/docs/lit/getliterature.tsp?genericPartNumber=TLV320AIC33&fileType=pdf
footprint GQE80 (BGA, 80-Leads, Body 5x5mm, Pitch 0.5mm)
part A pins: A1 MIC3R (in) "MIC3 Input (Right or Multifunction)", A2 MICBIAS (out) "Microphone Bias Voltage Output", A3 LINE2RM (in) "MIC2 or Line2 Analog Input (Right Minus or Multifunction)", A4 LINE2LP (in) "MIC2 or Line2 Analog Input (Left Plus or Multifunction)", A5 LINE1LM (in) "MIC1 or Line1 Analog Input (Left Minus or Multifunction)", A6 LINE1LP (in) "MIC1 or Line1 Analog Input (Left Plus or Multifunction)", A8 MFP2 (io) "Multifunction pin #2 - SPI MISO Slave Serial Data Output / GPOI", A9 MFP3 (in) "Multifunction pin #3 - SPI MOSI Slave Serial Data Input / GPI / Audio Serial Data Bus Data Input", B1 DRVDD (power) "ADC Analog and Output Driver Voltage Supply, 2.7 V-3.6 V", B2 MICDET (in) "Microphone Detect", B3 MIC3L (in) "MIC3 Input (Left or Multifunction)", B4 LINE2RP (in) "MIC2 or Line2 Analog Input (Right Plus or Multifunction)", B5 LINE2LM (in) "MIC2 or Line2 Analog Input (Left Minus or Multifunction)", B6 LINE1RM (in) "MIC1 or Line1 Analog Input (Right Minus or Multifunction)", B7 LINE1RP (in) "MIC1 or Line1 Analog Input (Right Plus or Multifunction)", B8 MFP0 (in) "Multifunction pin #0 - SPI Chip Select / GPI / I2C Address Pin #0", B9 MFP1 (in) "Multifunction pin #1 - SPI Serial Clock / GPI / I2C Address Pin #1S", C1 DRVDD (power) "ADC Analog and Output Driver Voltage Supply, 2.7 V-3.6 V", C2 AVSS_ADC (power) "Analog ADC Ground Supply, 0 V", C8 SCL (io) "I2C Serial Clock / GPIO", C9 IOVDD (power) "I/O Voltage Supply, 1.1V - 3.6V", D1 HPLOUT (hiz) "High-Power Output Driver (Left Plus)", D2 AVSS_ADC (power) "Analog ADC Ground Supply, 0 V", D8 SDA (io) "I2C Serial Data Input/Output / GPIO", D9 DVSS (power) "Digital Core / I/O Ground Supply, 0V", E1 HPLCOM (hiz) "High-Power Output Driver (Left Minus or Multifunctional)", E2 DRVSS (power) "Analog Output Driver Ground Supply, 0 V", E8 SELECT (in) "Control Mode Select Pin (1=SPI, 0=I2C)", E9 DIN (in) "Audio Serial Data Bus Data Input (Input)", F1 HPRCOM (hiz) "High-Power Output Driver (Right Minus or Multifunctional)", F2 DRVSS (power) "Analog Output Driver Ground Supply, 0 V", F8 DOUT (hiz) "Audio Serial Data Bus Data Output (Output)t", F9 WCLK (io) "Audio Serial Data Bus Word Clock (Input/Output)", G1 HPROUT (hiz) "High-Power Output Driver (Right Plus)", G2 AVSS_DAC (power) "Analog DAC Ground Supply, 0 V", G8 MCLK (in) "Master Clock Input", G9 BCLK (io) "Audio Serial Data Bus Bit Clock (Input/Output)", H1 DRVDD (power) "ADC Analog and Output Driver Voltage Supply, 2.7 V- 3.6 V", H2 AVSS_DAC (power) "Analog DAC Ground Supply, 0 V", H8 ~{RESET} (in) "Reset", H9 DVDD (power) "Digital Core Voltage Supply, 1.65V - 1.95V", J1 AVDD (power) "Analog DAC Voltage Supply, 2.7 V-3.6 V", J2 MONO_LOP (hiz) "Mono Line Output (Plus)", J3 MONO_LOM (hiz) "Mono Line Output (Minus)", J4 LEFT_LOP (hiz) "Left Line Output (Plus)", J5 LEFT_LOM (hiz) "Left Line Output (Minus)", J6 RIGHT_LOP (hiz) "Right Line Output (Plus)", J7 RIGHT_LOM (hiz) "Right Line Output (Minus)", J8 GPIO2 (io) "General-Purpose Input/Output #2 (Input/Output) / Digital Microphone Data Input / PLL Clock Input / Audio Serial Data Bus Bit Clock Input/Output", J9 GPIO1 (io) "General-Purpose Input/Output #1 (Input/Output) / PLL/Clock Mux Output / Short Circuit Interrupt / AGC Noise Flag / Digital Microphone Clock Audio Serial Data Bus Word Clock Input/Output"
part B pins: A7 NC "No Connect", C4 NC "Do not connect.", C5 NC "Do not connect.", C6 NC "Do not connect.", C7 NC "Do not connect.", D3 NC "Do not connect.", D4 NC "Do not connect.", D5 NC "Do not connect.", D6 NC "Do not connect.", D7 NC "Do not connect.", E3 NC "Do not connect.", E4 NC "Do not connect.", E5 NC "Do not connect.", E6 NC "Do not connect.", E7 NC "Do not connect.", F3 NC "Do not connect.", F4 NC "Do not connect.", F5 NC "Do not connect.", F6 NC "Do not connect.", F7 NC "Do not connect.", G3 NC "Do not connect.", G4 NC "Do not connect.", G5 NC "Do not connect.", G6 NC "Do not connect.", G7 NC "Do not connect.", H3 NC "Do not connect.", H4 NC "Do not connect.", H5 NC "Do not connect.", H6 NC "Do not connect.", H7 NC "Do not connect."

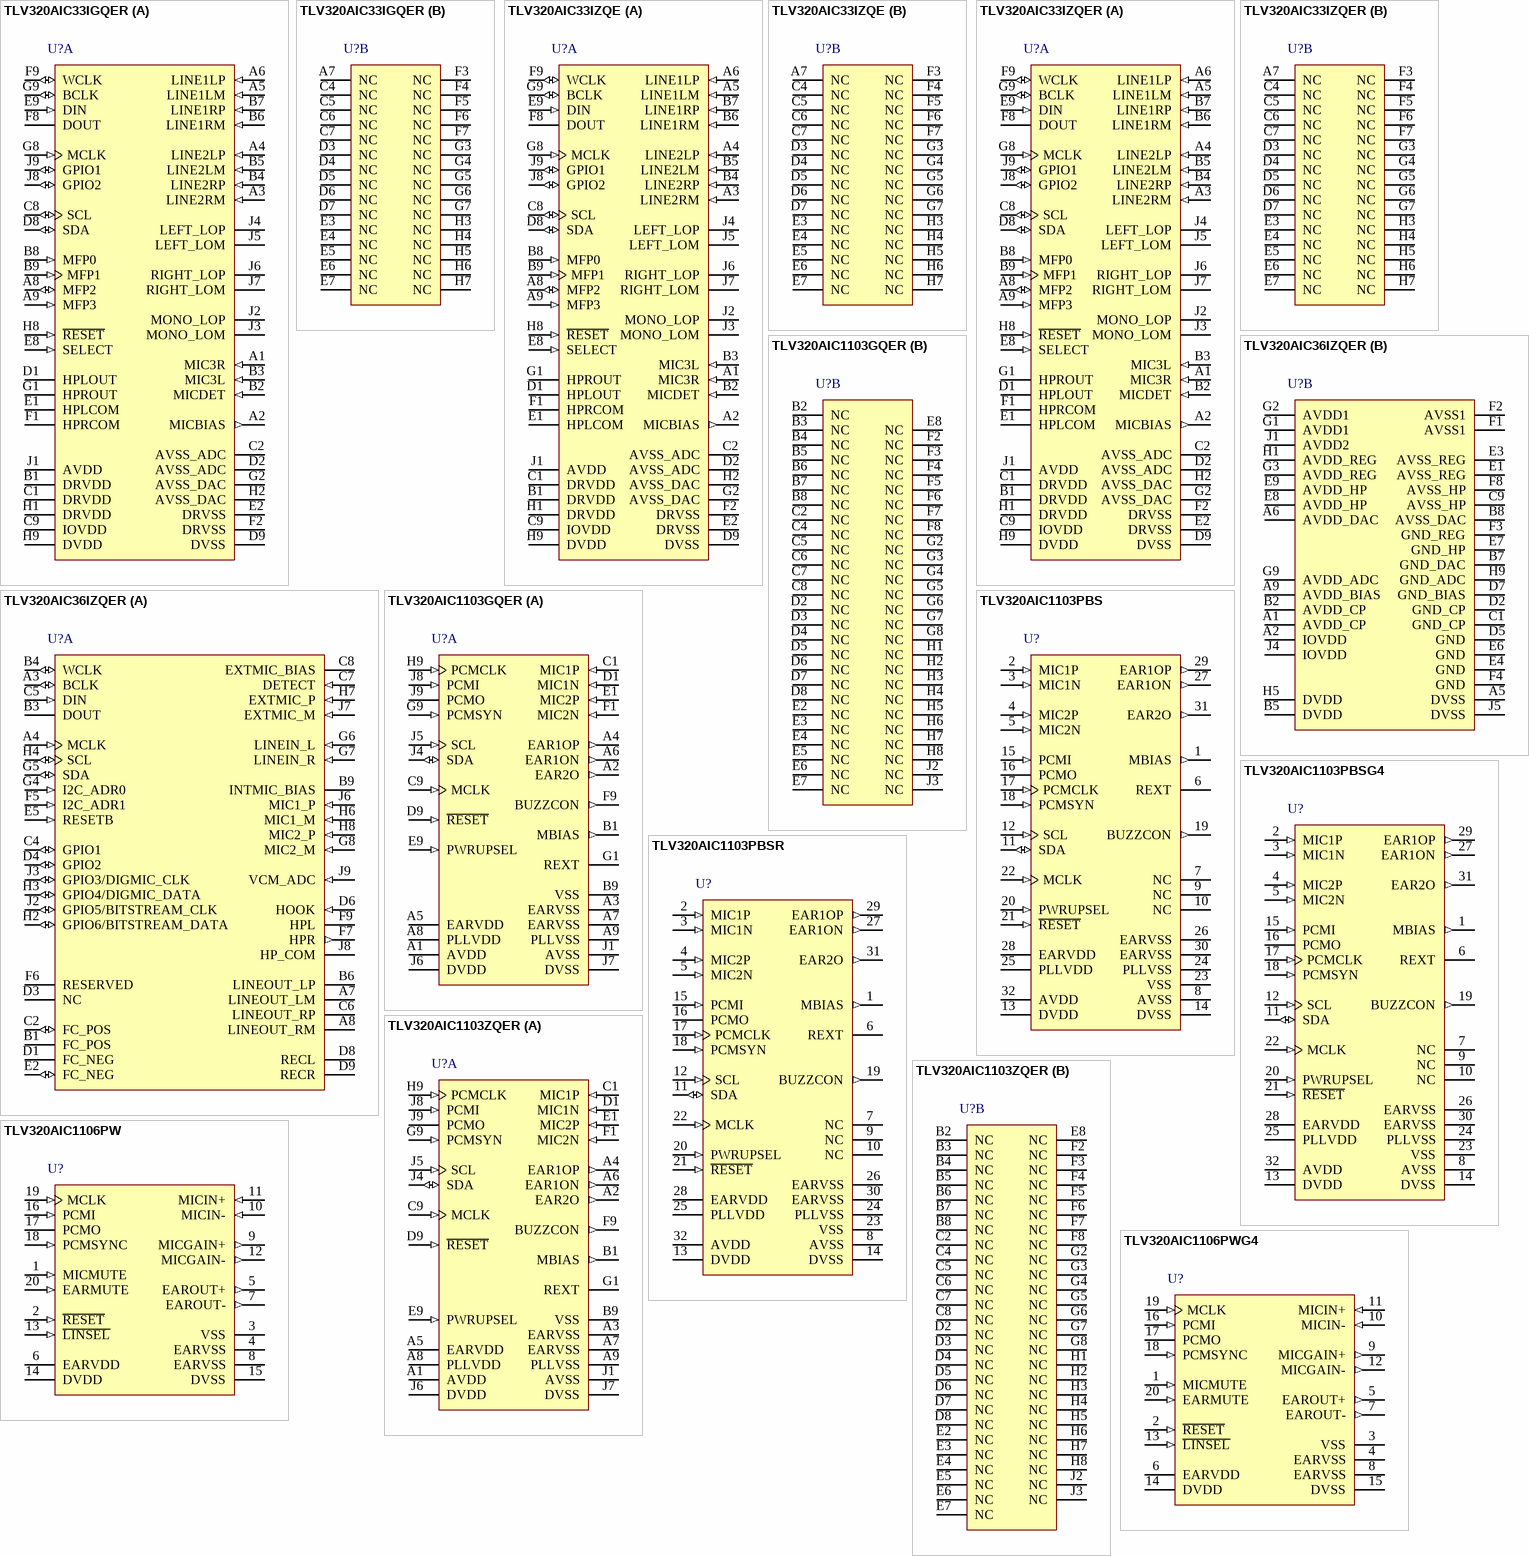
[diagram p10: symbols TLV320AIC33IGQER to TLV320AIC1106PWG4]